# Altium schematic symbol library RES,3k92,1%,0.063W,0402.Schlib: 1 symbol
Pins are listed as number, name and electrical type; pins without a type are passive.

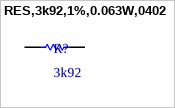
[diagram p0: symbol RES,3k92,1%,0.063W,0402]

## RES,3k92,1%,0.063W,0402
designator R?, comment 3k92
3.92k ±1% 0.063W, 1/16W Chip Resistor 0402 (1005 Metric) - Thick Film
pins: 1, 2